# EAGLE library part HEF4071BP (library NXP_By_element14_Batch_1)
Quad 2-input OR gate
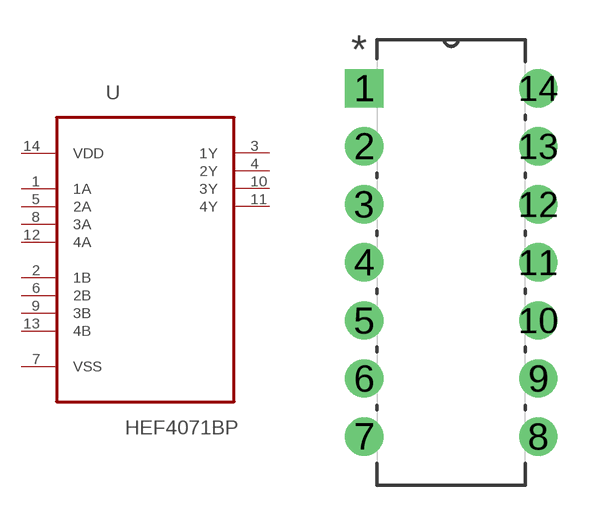
[diagram p271: symbol with the pads of DIP254P762X420-14; footprint DIP254P762X420-14]

Designator prefix U

## HEF4071BP (MPN: HEF4071BP; OC_FARNELL: 385591; OC_NEWARK: 10WX5463; PACKAGE: DIP-14; SUPPLIER: NXP)  [DIP254P762X420-14]
1  1A  in
2  1B  in
3  1Y  out
4  2Y  out
5  2A  in
6  2B  in
7  VSS  pas
8  3A  in
9  3B  in
10  3Y  out
11  4Y  out
12  4A  in
13  4B  in
14  VDD  pwr

## Footprint DIP254P762X420-14 (pad centres in mm)
drill 1.118 square: 1 -7.62,15.24
drill 1.118: 2 -7.62,12.7; 3 -7.62,10.16; 4 -7.62,7.62; 5 -7.62,5.08; 6 -7.62,2.54; 7 -7.62,0; 8 0,0; 9 0,2.54; 10 0,5.08; 11 0,7.62; 12 0,10.16; 13 0,12.7; 14 0,15.24